# Altium schematic symbol library BW1098EMB_R0M0E0.SchLib: 1 symbol
Pins are listed as number, name and electrical type; pins without a type are passive.

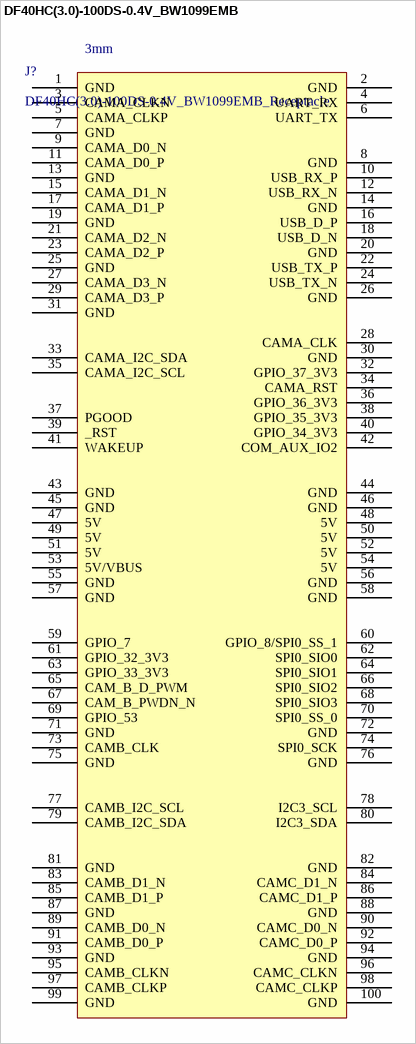
[diagram p0: symbol DF40HC(3.0)-100DS-0.4V_BW1099EMB]

## DF40HC(3.0)-100DS-0.4V_BW1099EMB
designator J?, comment DF40HC(3.0)-100DS-0.4V_BW1099EMB_Receptacle  Mated Stacking Height: 3mm
CONN RCPT 100POS 0.4MM SMD GOLD EMB PINOUT; Manufacturer 1: Hirose; Manufacturer Part Number 1: DF40HC(3.0)-100DS-0.4V(51; Number of Positions: 100; Pitch: 0.016inch; RoHS: Yes; Mount: Surface Mount; Contact Plating: Gold; Packaging: Tape and Reel; Number of Rows: 2; Package Quantity: 1000; Connector Type: Receptacle; Lead Free: Lead Free; ComponentLink1URL: https://datasheet.ciiva.com/46636/ed-df40-20140305-46636517.pdf?src-supplier=Digi-Key; ComponentLink1Description: https://datasheet.ciiva.com/46636/ed-df40-20140305-46636517.pdf?src-supplier=Digi-Key; ComponentLink2URL: https://datasheet.ciiva.com/18562/ed-df40-20140305-18562189.pdf?src-supplier=Digi-Key; ComponentLink2Description: https://datasheet.ciiva.com/18562/ed-df40-20140305-18562189.pdf?src-supplier=Digi-Key; ComponentLink3URL: https://datasheet.ciiva.com/13559/ed-df40-20140305-13559540.pdf?src-supplier=Mouser; ComponentLink3Description: https://datasheet.ciiva.com/13559/ed-df40-20140305-13559540.pdf?src-supplier=Mouser; ComponentLink4URL: https://datasheet.ciiva.com/18562/ed-df40-20140305-18562462.pdf?src-supplier=Digi-Key; ComponentLink4Description: https://datasheet.ciiva.com/18562/ed-df40-20140305-18562462.pdf?src-supplier=Digi-Key; Supplier 1: Mouser; Stock 1: 2172; Pricing 1: 1=2.54000, 10=2.26000, 25=2.07000, 50=2.07000, 100=1.98000, 250=1.79000, 500=1.65000, 1000=1.41000, 3000=1.32000, 6000=1.23000, 10000=1.23000 (USD); Supplier 2: Mouser; Manufacturer 2: Hirose; Manufacturer Part Number 2: DF40HC(3.0)-100DS-0.4V(58); Stock 2: 2078; Pricing 2: 1=2.50000, 10=2.40000, 25=2.10000, 50=2.10000, 100=2.00000, 250=1.76000, 500=1.71000, 1000=1.45000, 2000=1.36000, 5000=1.31000, 10000=1.31000 (USD); Supplier Part Number 1: 798-DF40HC30100DS451; Supplier Part Number 2: 798-DF40HC30100DS458
footprint DF40HC-3.0-100DS-0.4V_minpad (3.0MM MATED HEIGHT CONN HDR 100POS 0.4MM SMD GOLD)
pins: 1 GND, 2 GND, 3 CAMA_CLKN, 4 UART_RX, 5 CAMA_CLKP, 6 UART_TX, 7 GND, 8 GND, 9 CAMA_D0_N, 10 USB_RX_P, 11 CAMA_D0_P, 12 USB_RX_N, 13 GND, 14 GND, 15 CAMA_D1_N, 16 USB_D_P, 17 CAMA_D1_P, 18 USB_D_N, 19 GND, 20 GND, 21 CAMA_D2_N, 22 USB_TX_P, 23 CAMA_D2_P, 24 USB_TX_N, 25 GND, 26 GND, 27 CAMA_D3_N, 28 CAMA_CLK, 29 CAMA_D3_P, 30 GND, 31 GND, 32 GPIO_37_3V3, 33 CAMA_I2C_SDA, 34 CAMA_RST, 35 CAMA_I2C_SCL, 36 GPIO_36_3V3, 37 PGOOD, 38 GPIO_35_3V3, 39 _RST, 40 GPIO_34_3V3, 41 WAKEUP, 42 COM_AUX_IO2, 43 GND, 44 GND, 45 GND, 46 GND, 47 5V, 48 5V, 49 5V, 50 5V, 51 5V, 52 5V, 53 5V/VBUS, 54 5V, 55 GND, 56 GND, 57 GND, 58 GND, 59 GPIO_7, 60 GPIO_8/SPI0_SS_1, 61 GPIO_32_3V3, 62 SPI0_SIO0, 63 GPIO_33_3V3, 64 SPI0_SIO1, 65 CAM_B_D_PWM, 66 SPI0_SIO2, 67 CAM_B_PWDN_N, 68 SPI0_SIO3, 69 GPIO_53, 70 SPI0_SS_0, 71 GND, 72 GND, 73 CAMB_CLK, 74 SPI0_SCK, 75 GND, 76 GND, 77 CAMB_I2C_SCL, 78 I2C3_SCL, 79 CAMB_I2C_SDA, 80 I2C3_SDA, 81 GND, 82 GND, 83 CAMB_D1_N, 84 CAMC_D1_N, 85 CAMB_D1_P, 86 CAMC_D1_P, 87 GND, 88 GND, 89 CAMB_D0_N, 90 CAMC_D0_N, 91 CAMB_D0_P, 92 CAMC_D0_P, 93 GND, 94 GND, 95 CAMB_CLKN, 96 CAMC_CLKN, 97 CAMB_CLKP, 98 CAMC_CLKP, 99 GND, 100 GND